# Altium schematic symbol library 215079-4.SchLib: 1 symbol
Pins are listed as number, name and electrical type; pins without a type are passive.

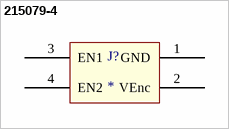
[diagram p0: symbol 215079-4]

## 215079-4
designator J?
Micro-MaTch 215079-4
footprint MICRO-MATCH-FOB-04
pins: 1 GND, 2 VEnc, 3 EN1, 4 EN2